# Altium footprint library MAL215299704E3.PcbLib: 1 footprints
Each footprint in its own frame and in the unit in brackets; x right, y up, seen from the top. Pads: shape width x height; smd on the part's side, far side on the other; paste and mask are expansions set on the pad; w line width, h text height; cw(c..) or ccw(c..) is an arc to the next point about the centre after c.
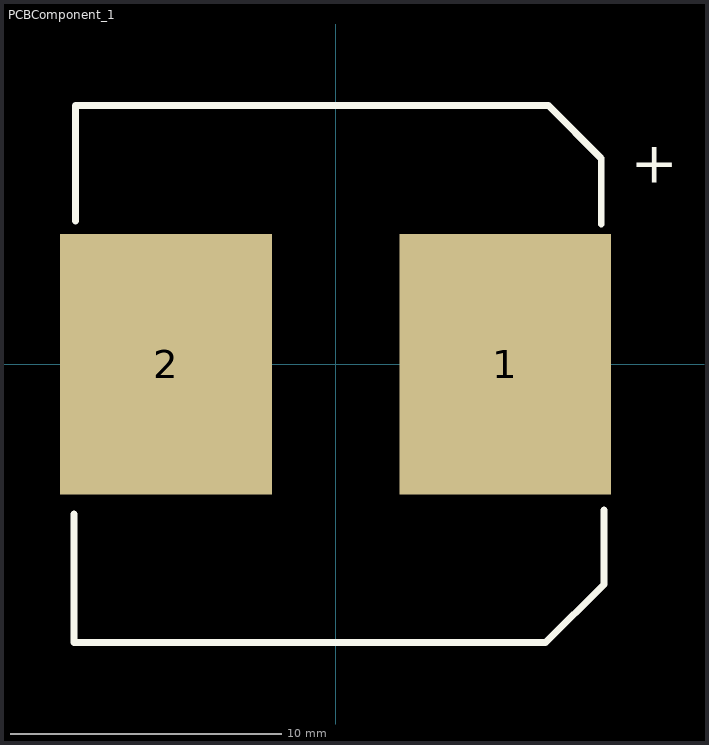
[diagram p0: the footprint, top view; thin cyan lines are the x and y axes]

## PCBComponent_1 [mm]
pads (2):
  rect 7.8x9.6 smd: 1(6.25,0) 2(-6.25,0)
Top Overlay:
  lines w0.254: -9.641,-5.525 -9.641,-10.261 7.748,-10.261 9.894,-8.115 9.894,-5.377 ; -9.592,5.279 -9.592,9.546 7.847,9.546 9.795,7.597 9.795,5.18
  text "+" at 10.888,6.685 h1.52